# EAGLE library part A000053 (library A000053)
Check availability <https://pricing.snapeda.com/parts/Arduino%20Micro/Arduino/view-part?ref=eda>
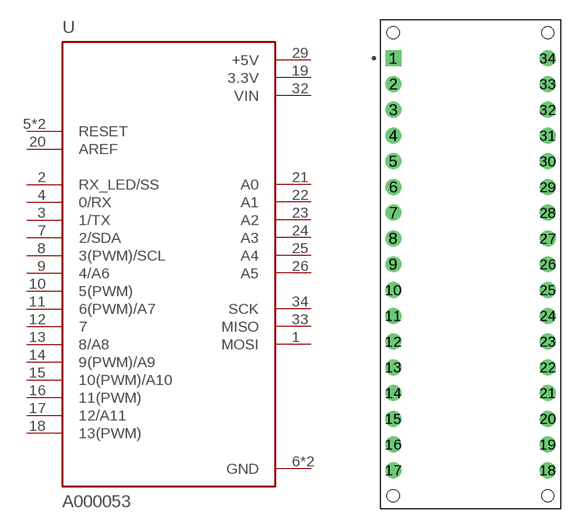
[diagram p0: symbol with the pads of ARDUINO_A000053; footprint ARDUINO_A000053]

Designator prefix U

## A000053 (Availability: In Stock; Check_prices: https://www.snapeda.com/parts/Arduino%20Micro/Arduino/view-part/?ref=eda; Description: Microcontroller board based on the ATmega32u4; MF: Arduino; MP: Arduino Micro; Package: Non-Standard Arduino; Price: None; SnapEDA_Link: https://www.snapeda.com/parts/Arduino%20Micro/Arduino/view-part/?ref=snap)  [ARDUINO_A000053]
1  MOSI
2  RX_LED/SS
3  1/TX
4  0/RX
5  RESET  in
6  GND  pwr
7  2/SDA
8  3(PWM)/SCL
9  4/A6
10  5(PWM)
11  6(PWM)/A7
12  7
13  8/A8
14  9(PWM)/A9
15  10(PWM)/A10
16  11(PWM)
17  12/A11
18  13(PWM)
19  3.3V  pwr
20  AREF  in
21  A0
22  A1
23  A2
24  A3
25  A4
26  A5
29  +5V  pwr
30  RESET  in
31  GND  pwr
32  VIN  pwr
33  MISO
34  SCK

## Footprint ARDUINO_A000053 (pad centres in mm)
drill 0.914 pad 1.575 square: 1 -7.62,20.32
drill 0.914 pad 1.575: 2 -7.62,17.78; 3 -7.62,15.24; 4 -7.62,12.7; 5 -7.62,10.16; 6 -7.62,7.62; 7 -7.62,5.08; 8 -7.62,2.54; 9 -7.62,0; 10 -7.62,-2.54; 11 -7.62,-5.08; 12 -7.62,-7.62; 13 -7.62,-10.16; 14 -7.62,-12.7; 15 -7.62,-15.24; 16 -7.62,-17.78; 17 -7.62,-20.32; 18 7.62,-20.32; 19 7.62,-17.78; 20 7.62,-15.24; 21 7.62,-12.7; 22 7.62,-10.16; 23 7.62,-7.62; 24 7.62,-5.08; 25 7.62,-2.54; 26 7.62,0; 27 7.62,2.54; 28 7.62,5.08; 29 7.62,7.62; 30 7.62,10.16; 31 7.62,12.7; 32 7.62,15.24; 33 7.62,17.78; 34 7.62,20.32
hole 1.2 at -7.62,-22.86
hole 1.2 at 7.62,-22.86
hole 1.2 at -7.62,22.86
hole 1.2 at 7.62,22.86